# EAGLE library part TCA9548A (library Texas Instruments)
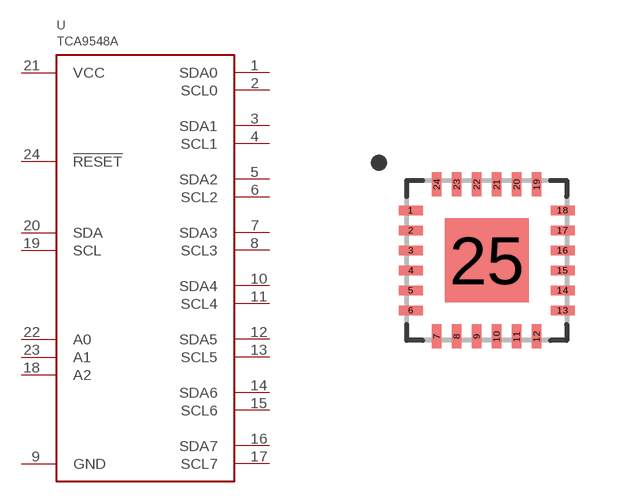
[diagram p7: symbol with the pads of VQFN24; footprint VQFN24]

Designator prefix U

## TCA9548A  [VQFN24]
1  SDA0
2  SCL0
3  SDA1
4  SCL1
5  SDA2
6  SCL2
7  SDA3
8  SCL3
9  GND
10  SDA4
11  SCL4
12  SDA5
13  SCL5
14  SDA6
15  SCL6
16  SDA7
17  SCL7
18  A2
19  SCL
20  SDA
21  VCC
22  A0
23  A1
24  !RESET

## Footprint VQFN24 (pad centres in mm)
smd 0.6 x 0.24: 1 -1.9,1.25; 2 -1.9,0.75; 3 -1.9,0.25; 4 -1.9,-0.25; 5 -1.9,-0.75; 6 -1.9,-1.25; 13 1.9,-1.25; 14 1.9,-0.75; 15 1.9,-0.25; 16 1.9,0.25; 17 1.9,0.75; 18 1.9,1.25
smd 0.24 x 0.6: 7 -1.25,-1.9; 8 -0.75,-1.9; 9 -0.25,-1.9; 10 0.25,-1.9; 11 0.75,-1.9; 12 1.25,-1.9; 19 1.25,1.9; 20 0.75,1.9; 21 0.25,1.9; 22 -0.25,1.9; 23 -0.75,1.9; 24 -1.25,1.9
smd 2.1 x 2.1: 25 0,0